# EAGLE library part SPV1050 (library STM-SPV1050)
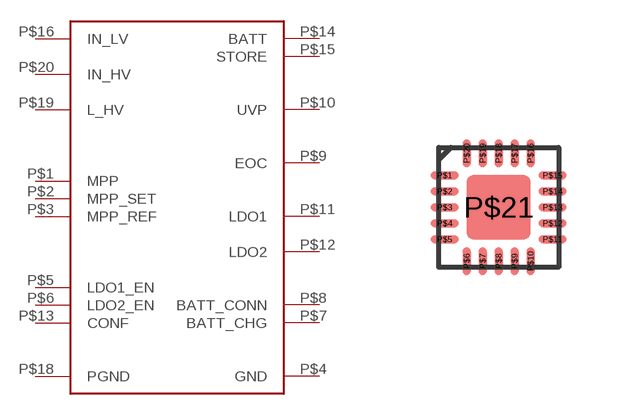
[diagram p0: symbol with the pads of SPV1050; footprint SPV1050]

Designator prefix -

## SPV1050  [SPV1050]
P$1  MPP  in
P$2  MPP_SET  in
P$3  MPP_REF  in
P$4  GND  sup
P$5  LDO1_EN  in
P$6  LDO2_EN  in
P$7  BATT_CHG  oc
P$8  BATT_CONN  oc
P$9  EOC  in
P$10  UVP  in
P$11  LDO1  out
P$12  LDO2  out
P$13  CONF  in
P$14  BATT
P$15  STORE
P$16  IN_LV  pwr
P$18  PGND  sup
P$19  L_HV  pwr
P$20  IN_HV  pwr

## Footprint SPV1050 (pad centres in mm)
smd 0.7 x 0.2: P$1 -1.35,0.8; P$2 -1.35,0.4; P$3 -1.35,0; P$4 -1.35,-0.4; P$5 -1.35,-0.8; P$11 1.35,-0.8; P$12 1.35,-0.4; P$13 1.35,0; P$14 1.35,0.4; P$15 1.35,0.8
smd 0.2 x 0.7: P$6 -0.8,-1.35; P$7 -0.4,-1.35; P$8 0,-1.35; P$9 0.4,-1.35; P$10 0.8,-1.35; P$16 0.8,1.35; P$17 0.4,1.35; P$18 0,1.35; P$19 -0.4,1.35; P$20 -0.8,1.35
smd 1.6 x 1.6: P$21 0,0